# EAGLE library part L77HDE15SD1CH4RHNVGA (library SamacSys_Parts)
D-Sub High Density Connectors Dsub, Stamped Signal 3A, High Density, Right Angle PCB Thru Hole, FP=8.89mm (.350"), 15 Socket, Bright Tin Shell, Flash Gold, 4-40 Rear Insert, Ground Tab with Boardlock, High Temp, Nickel Shell, VGA Source: Datasheet <https://componentsearchengine.com/Datasheets/1/L77HDE15SD1CH4RHNVGA.pdf>
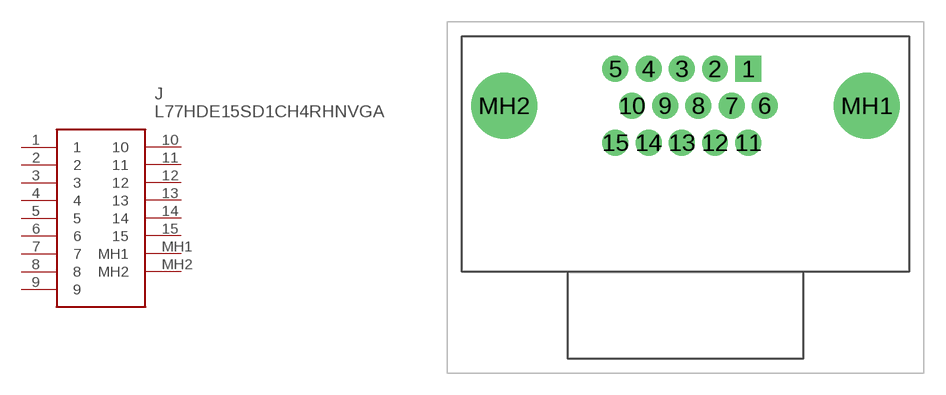
[diagram p210: symbol with the pads of L77HDE15SD1CH4RHNVGA; footprint L77HDE15SD1CH4RHNVGA]

Designator prefix J

## L77HDE15SD1CH4RHNVGA (DESCRIPTION: D-Sub High Density Connectors Dsub, Stamped Signal 3A, High Density, Right Angle PCB Thru Hole, FP=8.89mm (.350"), 15 Socket, Bright Tin Shell, Flash Gold, 4-40 Rear Insert, Ground Tab with Boardlock, High Temp, Nickel Shell, VGA; HEIGHT: 12.55mm; MANUFACTURER_NAME: Amphenol; MANUFACTURER_PART_NUMBER: L77HDE15SD1CH4RHNVGA; MOUSER_PART_NUMBER: 523-7HDE15SDH4RHNVGA; MOUSER_PRICE-STOCK: https://www.mouser.co.uk/ProductDetail/Amphenol-Commercial-Products/L77HDE15SD1CH4RHNVGA?qs=f9yNj16SXrKPVxRw%2FcVQYg%3D%3D)  [L77HDE15SD1CH4RHNVGA]
1  1
2  2
3  3
4  4
5  5
6  6
7  7
8  8
9  9
10  10
11  11
12  12
13  13
14  14
15  15
MH1  MH1
MH2  MH2

## Footprint L77HDE15SD1CH4RHNVGA (pad centres in mm)
L77HDE15SD1CH4RHNVGA-2
drill 1.19 pad 1.785 square: 1 0,5.08
drill 1.19 pad 1.785: 2 -2.29,5.08; 3 -4.58,5.08; 4 -6.87,5.08; 5 -9.16,5.08; 6 1.145,2.54; 7 -1.145,2.54; 8 -3.435,2.54; 9 -5.725,2.54; 10 -8.015,2.54; 11 0,0; 12 -2.29,0; 13 -4.58,0; 14 -6.87,0; 15 -9.16,0
drill 3.05 pad 4.575: MH1 8.17,2.54; MH2 -16.82,2.54